# EAGLE library part 09232486825 (library din41612_48_pin_backplane)
Check prices <https://pricing.snapeda.com/parts/5535070-4/TE%20Connectivity/view-part?ref=eda>
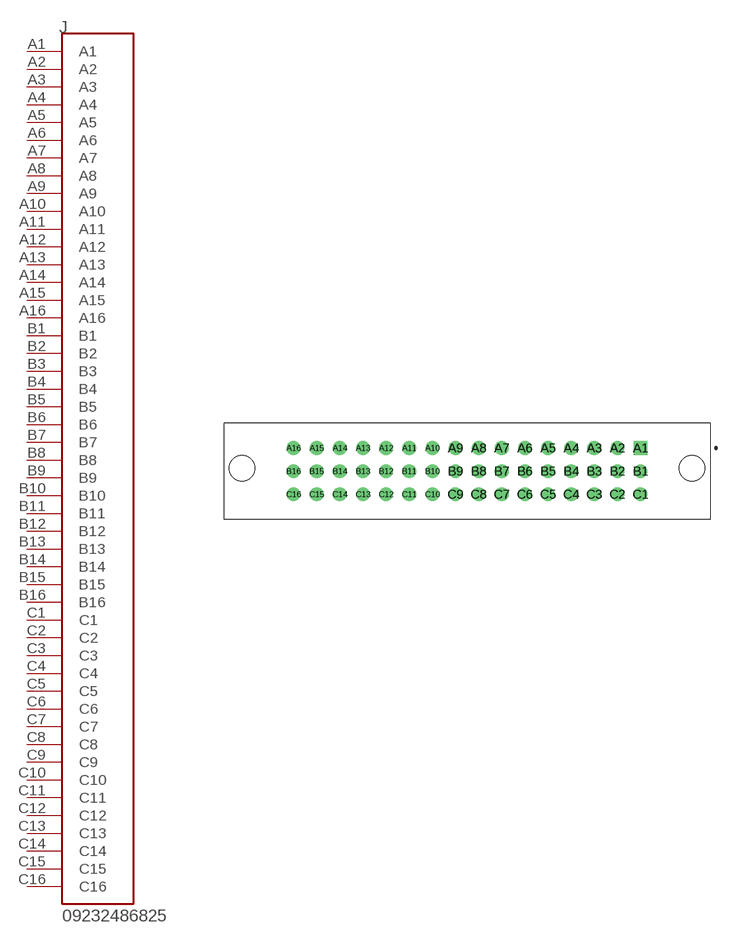
[diagram p0: symbol with the pads of HARTING_09232486825; footprint HARTING_09232486825]

Designator prefix J

## 09232486825 (MANUFACTURER-PART-NUMBER: 09232486825; PACKAGE: None)  [HARTING_09232486825]
A1  A1  pas
A2  A2  pas
A3  A3  pas
A4  A4  pas
A5  A5  pas
A6  A6  pas
A7  A7  pas
A8  A8  pas
A9  A9  pas
A10  A10  pas
A11  A11  pas
A12  A12  pas
A13  A13  pas
A14  A14  pas
A15  A15  pas
A16  A16  pas
B1  B1  pas
B2  B2  pas
B3  B3  pas
B4  B4  pas
B5  B5  pas
B6  B6  pas
B7  B7  pas
B8  B8  pas
B9  B9  pas
B10  B10  pas
B11  B11  pas
B12  B12  pas
B13  B13  pas
B14  B14  pas
B15  B15  pas
B16  B16  pas
C1  C1  pas
C2  C2  pas
C3  C3  pas
C4  C4  pas
C5  C5  pas
C6  C6  pas
C7  C7  pas
C8  C8  pas
C9  C9  pas
C10  C10  pas
C11  C11  pas
C12  C12  pas
C13  C13  pas
C14  C14  pas
C15  C15  pas
C16  C16  pas

## Footprint HARTING_09232486825 (pad centres in mm)
drill 1 pad 1.35 square: A1 0,0
drill 1 pad 1.35: A2 -2.54,0; A3 -5.08,0; A4 -7.62,0; A5 -10.16,0; A6 -12.7,0; A7 -15.24,0; A8 -17.78,0; A9 -20.32,0; A10 -22.86,0; A11 -25.4,0; A12 -27.94,0; A13 -30.48,0; A14 -33.02,0; A15 -35.56,0; A16 -38.1,0; B1 0,-2.54; B2 -2.54,-2.54; B3 -5.08,-2.54; B4 -7.62,-2.54; B5 -10.16,-2.54; B6 -12.7,-2.54; B7 -15.24,-2.54; B8 -17.78,-2.54; B9 -20.32,-2.54; B10 -22.86,-2.54; B11 -25.4,-2.54; B12 -27.94,-2.54; B13 -30.48,-2.54; B14 -33.02,-2.54; B15 -35.56,-2.54; B16 -38.1,-2.54; C1 0,-5.08; C2 -2.54,-5.08; C3 -5.08,-5.08; C4 -7.62,-5.08; C5 -10.16,-5.08; C6 -12.7,-5.08; C7 -15.24,-5.08; C8 -17.78,-5.08; C9 -20.32,-5.08; C10 -22.86,-5.08; C11 -25.4,-5.08; C12 -27.94,-5.08; C13 -30.48,-5.08; C14 -33.02,-5.08; C15 -35.56,-5.08; C16 -38.1,-5.08
hole 2.79 at -43.74,-2.24
hole 2.79 at 5.64,-2.24